# Altium integrated library TS1117BCW50_RPG.IntLib: 1 symbol
Pins are listed as number, name and electrical type; pins without a type are passive.

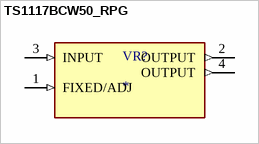
[diagram p0: symbol TS1117BCW50_RPG]

## TS1117BCW50_RPG
designator VR?
1A 5V LOW DROPOUT VOLTAGE REGULATOR; MP: TS1117BCW50 RPG; MF: Taiwan Semiconductor; Availability: In Stock; Check_prices: https://www.snapeda.com/parts/TS1117BCW50%20RPG/Taiwan+Semiconductor/view-part/?ref=eda; Purchase-URL: https://pricing.snapeda.com/search/part/TS1117BCW50 RPG/?ref=eda; SnapEDA_Link: https://www.snapeda.com/parts/TS1117BCW50%20RPG/Taiwan+Semiconductor/view-part/?ref=snap; Value: *; Price: None; Package: SOT-223 Taiwan Semiconductor
footprint VREG_TS1117BCW50_RPG
pins: 1 FIXED/ADJ (in), 2 OUTPUT (out), 3 INPUT (in), 4 OUTPUT (out)